# Altium integrated library Transformer.IntLib: 20 symbols
Pins are listed as number, name and electrical type; pins without a type are passive.

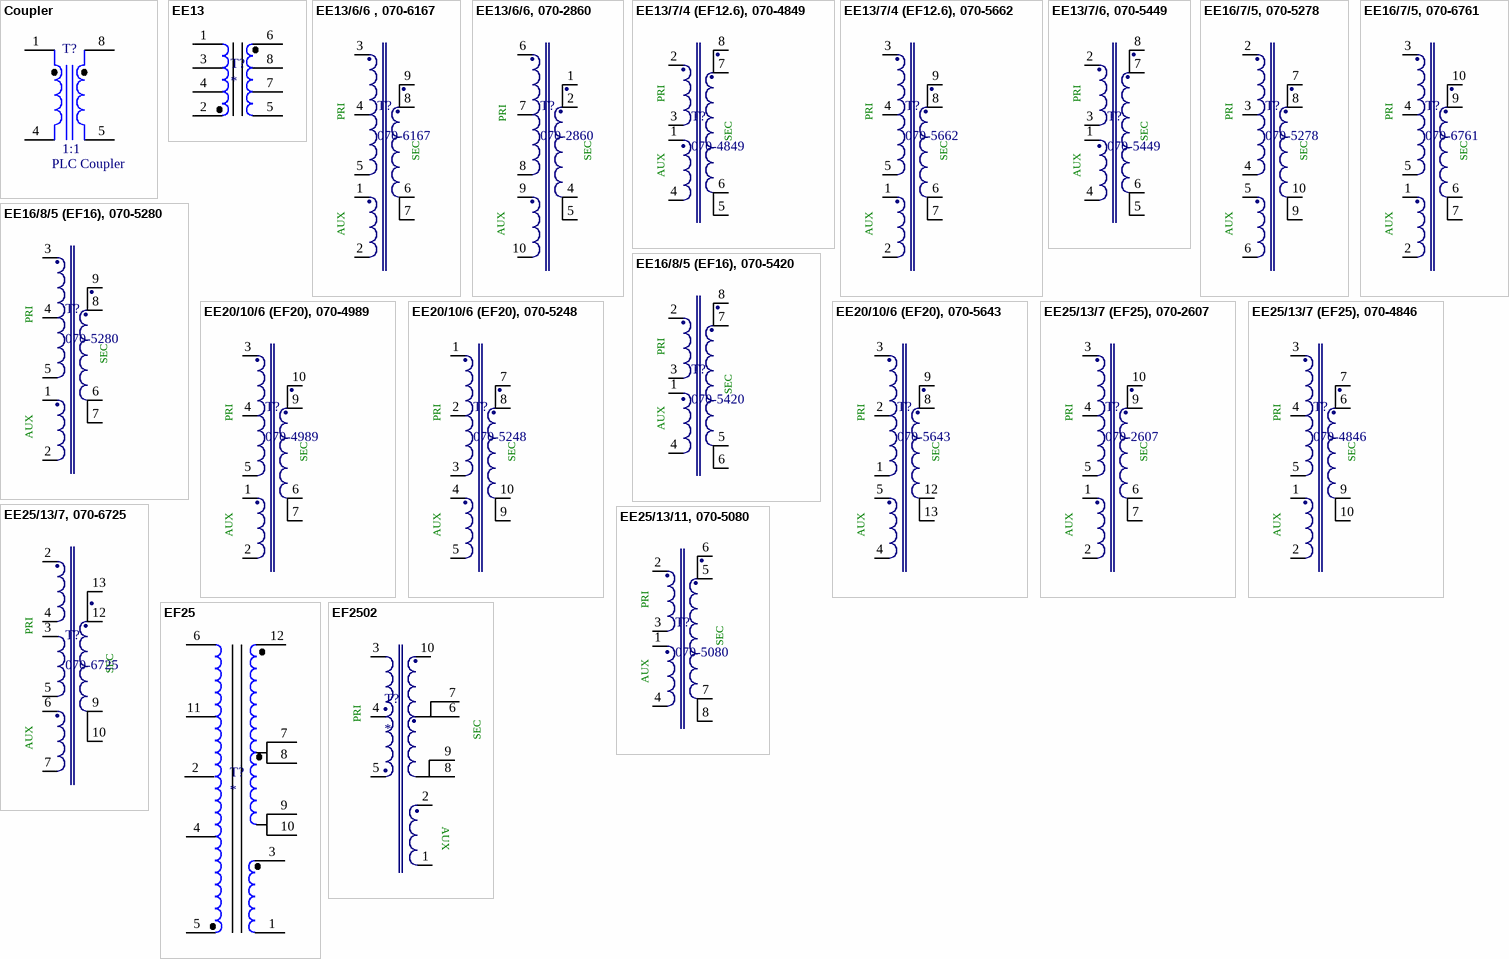
[diagram p0: symbols Coupler to EF2502]

## Coupler
designator T?, comment PLC Coupler
Isolation Transformer; Manufacturer: Precision Components, Inc.; Manufacturer Part#: 0505-0821G; Digi-Key#: www.pcitransformers.com
footprint PLC_TX
pins: 1 Pri+, 4 Pri-, 5 Sec-, 8 Sec+
text: 1:1

## EE13
designator T?
footprint EE13
pins: 1, 2, 3, 4, 5, 6, 7, 8

## EE13/6/6 , 070-6167
designator T?, comment 070-6167
Transformer 9-Terminal EXT, THT, Horizontal, EE Style , EE13/6/6; Manufacturer: Würth Elektronik Midcom; Core: 150-1994; PartNo: 070-6167; ComponentLink1Description: Manufacturer; ComponentLink1URL: www.we-online.com/midcom; Created by: kangas toby; Created Date: Aug 2015; ComponentLink2Description: Datasheet; ComponentLink2URL: http://katalog.we-online.de/pcd/datasheet/070-6167.pdf; Package: EE13/6/6
footprint EE13-6-6_6167 (THT, Body 20.45x13.72mm, 9Pins,Pitch 2.72mm)
pins: 1, 2, 3, 4, 5, 6, 7, 8, 9
text: PRI; SEC; AUX

## EE13/6/6, 070-2860
designator T?, comment 070-2860
Transformer 10-Terminal, THT, Vertical, EE Style Bobbins, EE13/6/6; Manufacturer: Würth Elektronik Midcom; Core: 150-1994; PartNo: 070-2860; ComponentLink1Description: Manufacturer; ComponentLink1URL: www.we-online.com/midcom; Created by: kangas toby; Created Date: Aug 2015; ComponentLink2Description: Datasheet; ComponentLink2URL: http://katalog.we-online.de/pcd/datasheet/070-2860.pdf; Package: EE13/6/6
footprint EE13-6-6_2860 (THT, Body 14.73X14.73mm, 10Pins,Pitch 2.50mm)
pins: 1, 2, 4, 5, 6, 7, 8, 9, 10
text: PRI; SEC; AUX

## EE13/7/4 (EF12.6), 070-4849
designator T?, comment 070-4849
Transformer 8-Terminal , THT, Horizontal, EE Style Bobbins, EE13/7/4 (EF12.6); Manufacturer: Würth Elektronik Midcom; Core: 150-2300; PartNo: 070-4849; ComponentLink1Description: Manufacturer; ComponentLink1URL: www.we-online.com/midcom; Created by: kangas toby; Created Date: July 2014; ComponentLink2Description: Datasheet; ComponentLink2URL: http://katalog.we-online.de/pcd/datasheet/070-4849.pdf; Package: EE13/7/4 (EF12.6)
footprint EE13-7-4_4849
pins: 1, 2, 3, 4, 5, 6, 7, 8
text: PRI; SEC; AUX

## EE13/7/4 (EF12.6), 070-5662
designator T?, comment 070-5662
Transformer 9-Terminal EXT, THT, Horizontal, EE Style Bobbins, EE13/7/4 (EF12.6); Manufacturer: Würth Elektronik Midcom; Core: 150-2300; PartNo: 070-5662; ComponentLink1Description: Manufacturer; ComponentLink1URL: www.we-online.com/midcom; Created by: kangas toby; Created Date: July 2014; ComponentLink2Description: Datasheet; ComponentLink2URL: http://katalog.we-online.de/pcd/datasheet/070-5662.pdf; Package: EE13/7/4 (EF12.6)
footprint EE13-7-4_5662 (THT, Body 20.45x13.72mm, 9Pins,Pitch 2.72mm)
pins: 1, 2, 3, 4, 5, 6, 7, 8, 9
text: PRI; SEC; AUX

## EE13/7/6, 070-5449
designator T?, comment 070-5449
Transformer 8-Terminal EXT, THT, Horizontal, EE Style Bobbins, EE13/7/6; Manufacturer: Würth Elektronik Midcom; Core: 150-3045; PartNo: 070-5449; ComponentLink1Description: Manufacturer; ComponentLink1URL: www.we-online.com/midcom; Created by: kangas toby; Created Date: Aug 2015; ComponentLink2Description: Datasheet; ComponentLink2URL: http://katalog.we-online.de/pcd/datasheet/070-5449.pdf; Package: EE13/7/6
footprint EE13-7-6_5449 (THT, Body 15X15.75mm, 8Pins,Pitch 3.81mm)
pins: 1, 2, 3, 4, 5, 6, 7, 8
text: PRI; SEC; AUX

## EE16/7/5, 070-5278
designator T?, comment 070-5278
Transformer 10-Terminal EXT, THT, Vertical, EE Style Bobbins, EE16/7/5; Manufacturer: Würth Elektronik Midcom; Core: 150-2115; PartNo: 070-5278; ComponentLink1Description: Manufacturer; ComponentLink1URL: www.we-online.com/midcom; Created by: kangas toby; Created Date: July 2014; ComponentLink2Description: Datasheet; ComponentLink2URL: http://katalog.we-online.de/pcd/datasheet/070-5278.pdf; Package: EE13/7/4 (EF12.6)
footprint EE16-7-5_5278 (THT, Body 18.50x16.50mm, 10Pins,Pitch 2.70mm)
pins: 2, 3, 4, 5, 6, 7, 8, 9, 10
text: PRI; SEC; AUX

## EE16/7/5, 070-6761
designator T?, comment 070-6761
Transformer 10-Terminal EXT, THT, Horizontal, EE Style Bobbins, EE16/7/5; Manufacturer: Würth Elektronik Midcom; Core: 150-2115; PartNo: 070-6761; ComponentLink1Description: Manufacturer; ComponentLink1URL: www.we-online.com/midcom; Created by: kangas toby; Created Date: Aug 2017; ComponentLink2Description: Datasheet; ComponentLink2URL: http://katalog.we-online.de/pcd/datasheet/070-6761.pdf; Package: EE16/7/5; Bobbin: 070-6761
footprint EE16-7-5_6761 (THT, Body 20x17.50mm, 10Pins,Pitch 3.20mm)
pins: 1, 2, 3, 4, 5, 6, 7, 9, 10
text: PRI; SEC; AUX

## EE16/8/5 (EF16), 070-5280
designator T?, comment 070-5280
Transformer 9-Terminal EXT, THT, Horizontal, EE Style Bobbins, EE16/8/5 (EF16); Manufacturer: Würth Elektronik Midcom; Core: 150-2182; PartNo: 070-5280; ComponentLink1Description: Manufacturer; ComponentLink1URL: www.we-online.com/midcom; Created by: kangas toby; Created Date: July 2014; ComponentLink2Description: Datasheet; ComponentLink2URL: http://katalog.we-online.de/pcd/datasheet/070-5280.pdf; Package: EE13/7/4 (EF12.6)
footprint EE16-8-5_5280
pins: 1, 2, 3, 4, 5, 6, 7, 8, 9
text: PRI; SEC; AUX

## EE16/8/5 (EF16), 070-5420
designator T?, comment 070-5420
Transformer 8-Terminal , THT, Horizontal, EE Style Bobbins, EE13/6/6; Manufacturer: Würth Elektronik Midcom; Core: 150-2182; PartNo: 070-5420; ComponentLink1Description: Manufacturer; ComponentLink1URL: www.we-online.com/midcom; Created by: kangas toby; Created Date: July 2014; ComponentLink2Description: Datasheet; ComponentLink2URL: http://katalog.we-online.de/pcd/datasheet/070-5420.pdf; Package: EE16/8/5 (EF16)
footprint EE16-8-5_5420 (THT, Body 20.30x17.96mm, 8Pins,Pitch 3.80mm)
pins: 1, 2, 3, 4, 5, 6, 7, 8
text: PRI; SEC; AUX

## EE20/10/6 (EF20), 070-4989
designator T?, comment 070-4989
Transformer 10-Terminal, THT, Horizontal, EE Style Bobbins, EE20/10/6 (EF20); Manufacturer: Würth Elektronik Midcom; Core: 150-1945; PartNo: 070-4989; ComponentLink1Description: Manufacturer; ComponentLink1URL: www.we-online.com/midcom; Created by: kangas toby; Created Date: July 2014; ComponentLink2Description: Datasheet; ComponentLink2URL: http://katalog.we-online.de/pcd/datasheet/070-4989.pdf; Package: EE20/10/6 (EF20)
footprint EE20-10-6_4989 (THT, Body 23.0x22.0mm, 10Pins,Pitch 3.81mm)
pins: 1, 2, 3, 4, 5, 6, 7, 9, 10
text: PRI; SEC; AUX

## EE20/10/6 (EF20), 070-5248
designator T?, comment 070-5248
Transformer 10-Terminal, THT, Vertical, EE Style Bobbins, EE20/10/6 (EF20); Manufacturer: Würth Elektronik Midcom; Core: 150-1945; PartNo: 070-5248; ComponentLink1Description: Manufacturer; ComponentLink1URL: www.we-online.com/midcom; Created by: kangas toby; Created Date: July 2014; ComponentLink2Description: Datasheet; ComponentLink2URL: http://katalog.we-online.de/pcd/datasheet/070-5248.pdf; Package: EE20/10/6 (EF20)
footprint EE20-10-6_5248 (THT, Body 22.25.0x14.4mm, 10Pins,Pitch 3.80mm)
pins: 1, 2, 3, 4, 5, 7, 8, 9, 10
text: PRI; SEC; AUX

## EE20/10/6 (EF20), 070-5643
designator T?, comment 070-5643
Transformer 14-Terminal EXT, THT, Horizontal, EE Style Bobbins, EE20/10/6 (EF20); Manufacturer: Würth Elektronik Midcom; Core: 150-1945; PartNo: 070-5643; ComponentLink1Description: Manufacturer; ComponentLink1URL: www.we-online.com/midcom; Created by: kangas toby; Created Date: July 2014; ComponentLink2Description: Datasheet; ComponentLink2URL: http://katalog.we-online.de/pcd/datasheet/070-5643.pdf; Package: EE20/10/6 (EF20)
footprint EE20-10-6_5643 (THT, Body 22.2.0x25.0mm, 14Pins,Pitch 2.49mm)
pins: 1, 2, 3, 4, 5, 8, 9, 12, 13
text: PRI; SEC; AUX

## EE25/13/7 (EF25), 070-2607
designator T?, comment 070-2607
Transformer 10-Terminal, THT, Horizontal, EE Style Bobbins, EE25/13/7 (EF25); Manufacturer: Würth Elektronik Midcom; Core: 150-2039; PartNo: 070-2607; ComponentLink1Description: Manufacturer; ComponentLink1URL: www.we-online.com/midcom; Created by: kangas toby; Created Date: July 2014; ComponentLink2Description: Datasheet; ComponentLink2URL: http://katalog.we-online.de/pcd/datasheet/070-2607.pdf; Package: EE25/13/7 (EF25)
footprint EE25-13-7_2607 (THT, Body 29.21x27.94mm, 10Pins, Pitch 5.08mm)
pins: 1, 2, 3, 4, 5, 6, 7, 9, 10
text: PRI; SEC; AUX

## EE25/13/7 (EF25), 070-4846
designator T?, comment 070-4846
Transformer 10-Terminal, THT, Vertical, EE Style Bobbins, EE25/13/7 (EF25); Manufacturer: Würth Elektronik Midcom; Core: 150-2039; PartNo: 070-4846; ComponentLink1Description: Manufacturer; ComponentLink1URL: www.we-online.com/midcom; Created by: kangas toby; Created Date: July 2014; ComponentLink2Description: Datasheet; ComponentLink2URL: http://katalog.we-online.de/pcd/datasheet/070-4846.pdf; Package: EE25/13/7 (EF25)
footprint EE25-13-7_4846 (THT, Body 27.95x20.32mm, 10Pins, Pitch 5.00mm)
pins: 1, 2, 3, 4, 5, 6, 7, 9, 10
text: PRI; SEC; AUX

## EE25/13/7, 070-6725
designator T?, comment 070-6725
Transformer 14-Terminal EXT, THT, Horizontal, EE Style Bobbins, EE25/13/7; Manufacturer: Würth Elektronik Midcom; Core: 150-2039; PartNo: 070-6725; ComponentLink1Description: Manufacturer; ComponentLink1URL: www.we-online.com/midcom; Created by: kangas toby; Created Date: Aug 2017; ComponentLink2Description: Datasheet; ComponentLink2URL: http://katalog.we-online.de/pcd/datasheet/070-6725.pdf; Package: EE25/13/7  (EF25); Bobbin: 070-6725
footprint EE25-13-7_6725 (THT, Body 27.05x32.25mm, 14Pins, Pitch 3.81mm)
pins: 2, 3, 4, 5, 6, 7, 9, 10, 12, 13
text: PRI; SEC; AUX

## EE25/13/11, 070-5080
designator T?, comment 070-5080
Transformer 8-Terminal, THT, Vertical, EE Style Bobbins, EE25/13/11; Manufacturer: Würth Elektronik Midcom; Core: 150-1680; PartNo: 070-5080; ComponentLink1Description: Manufacturer; ComponentLink1URL: www.we-online.com/midcom; Created by: kangas toby; Created Date: July 2014; ComponentLink2Description: Datasheet; ComponentLink2URL: http://katalog.we-online.de/pcd/datasheet/070-5080.pdf; Package: EE25/13/11
footprint EE25-13-11_5080 (THT, Body 26.00x23.50mm, 8Pins, Pitch 5.00mm)
pins: 1, 2, 3, 4, 5, 6, 7, 8
text: PRI; SEC; AUX

## EF25
designator T?
footprint EF25
pins: 1, 2, 3, 4, 5, 6, 7, 8, 9, 10, 11, 12

## EF2502
designator T?
footprint EF2502 (THT, Body 29.21x27.94mm, 10Pins, Pitch 5.08mm)
pins: 1, 2, 3, 4, 5, 6, 7, 8, 9, 10
text: SEC; PRI; AUX